# EAGLE library part 87368-12 (library con-molex-milli-grid)
RECEPTACAL
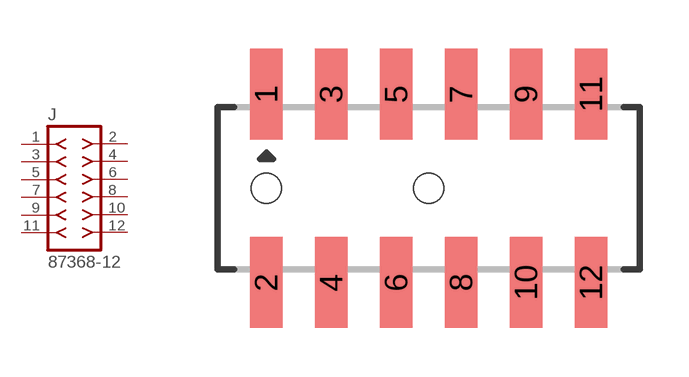
[diagram p185: symbol with the pads of 87368-12; footprint 87368-12]

Designator prefix J

## 87368-12  [87368-12]
1  1  pas
2  2  pas
3  3  pas
4  4  pas
5  5  pas
6  6  pas
7  7  pas
8  8  pas
9  9  pas
10  10  pas
11  11  pas
12  12  pas

## Footprint 87368-12 (pad centres in mm)
RECEPTACAL SMD Dual Row, Side Entry
smd 1 x 2.8: 1 -5,2.9; 2 -5,-2.9; 3 -3,2.9; 4 -3,-2.9; 5 -1,2.9; 6 -1,-2.9; 7 1,2.9; 8 1,-2.9; 9 3,2.9; 10 3,-2.9; 11 5,2.9; 12 5,-2.9
hole 0.914 at -5,0
hole 0.914 at 0,0